# Altium footprint library C1210.PcbLib: 1 footprints
Each footprint in its own frame and in the unit in brackets; x right, y up, seen from the top. Pads: shape width x height; smd on the part's side, far side on the other; paste and mask are expansions set on the pad; w line width, h text height; cw(c..) or ccw(c..) is an arc to the next point about the centre after c.
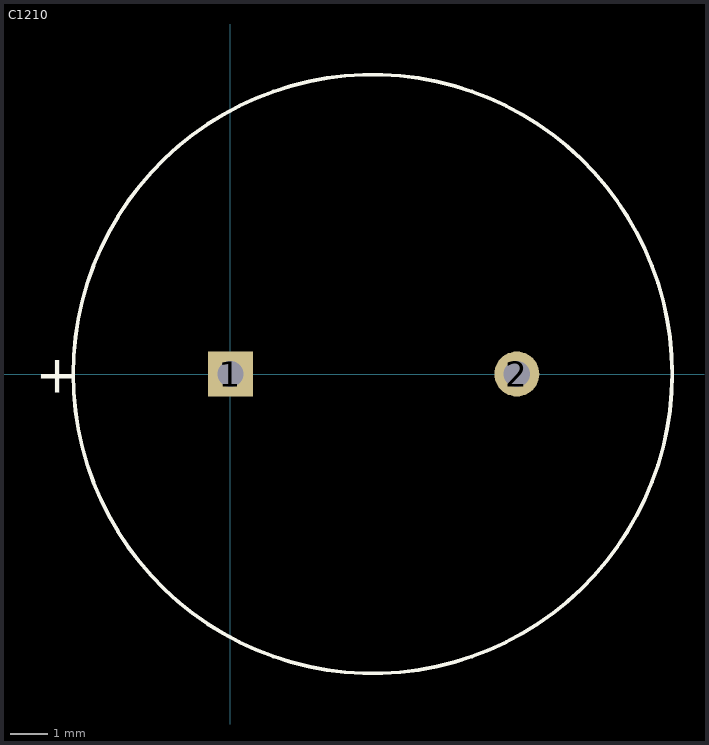
[diagram p0: the footprint, top view; thin cyan lines are the x and y axes]

## C1210 [mm] "CAP 3300UF 35V ELCET VR RADIAL"
height 35.5
pads (2):
  rect 1.2x1.2 hole 0.7: 1(0,0)
  round 1.2 hole 0.7: 2(7.65,0)
Top Overlay:
  circle w0.1: c3.8,0 r8
  text "+" at -5.2,-0.5 h1
3D body: height 35, standoff 0, extent -4.087,-8.009 11.85,7.959